# Altium schematic symbol library LimeMicroAltiumLib.SchLib: 659 symbols (part 6 of 22)
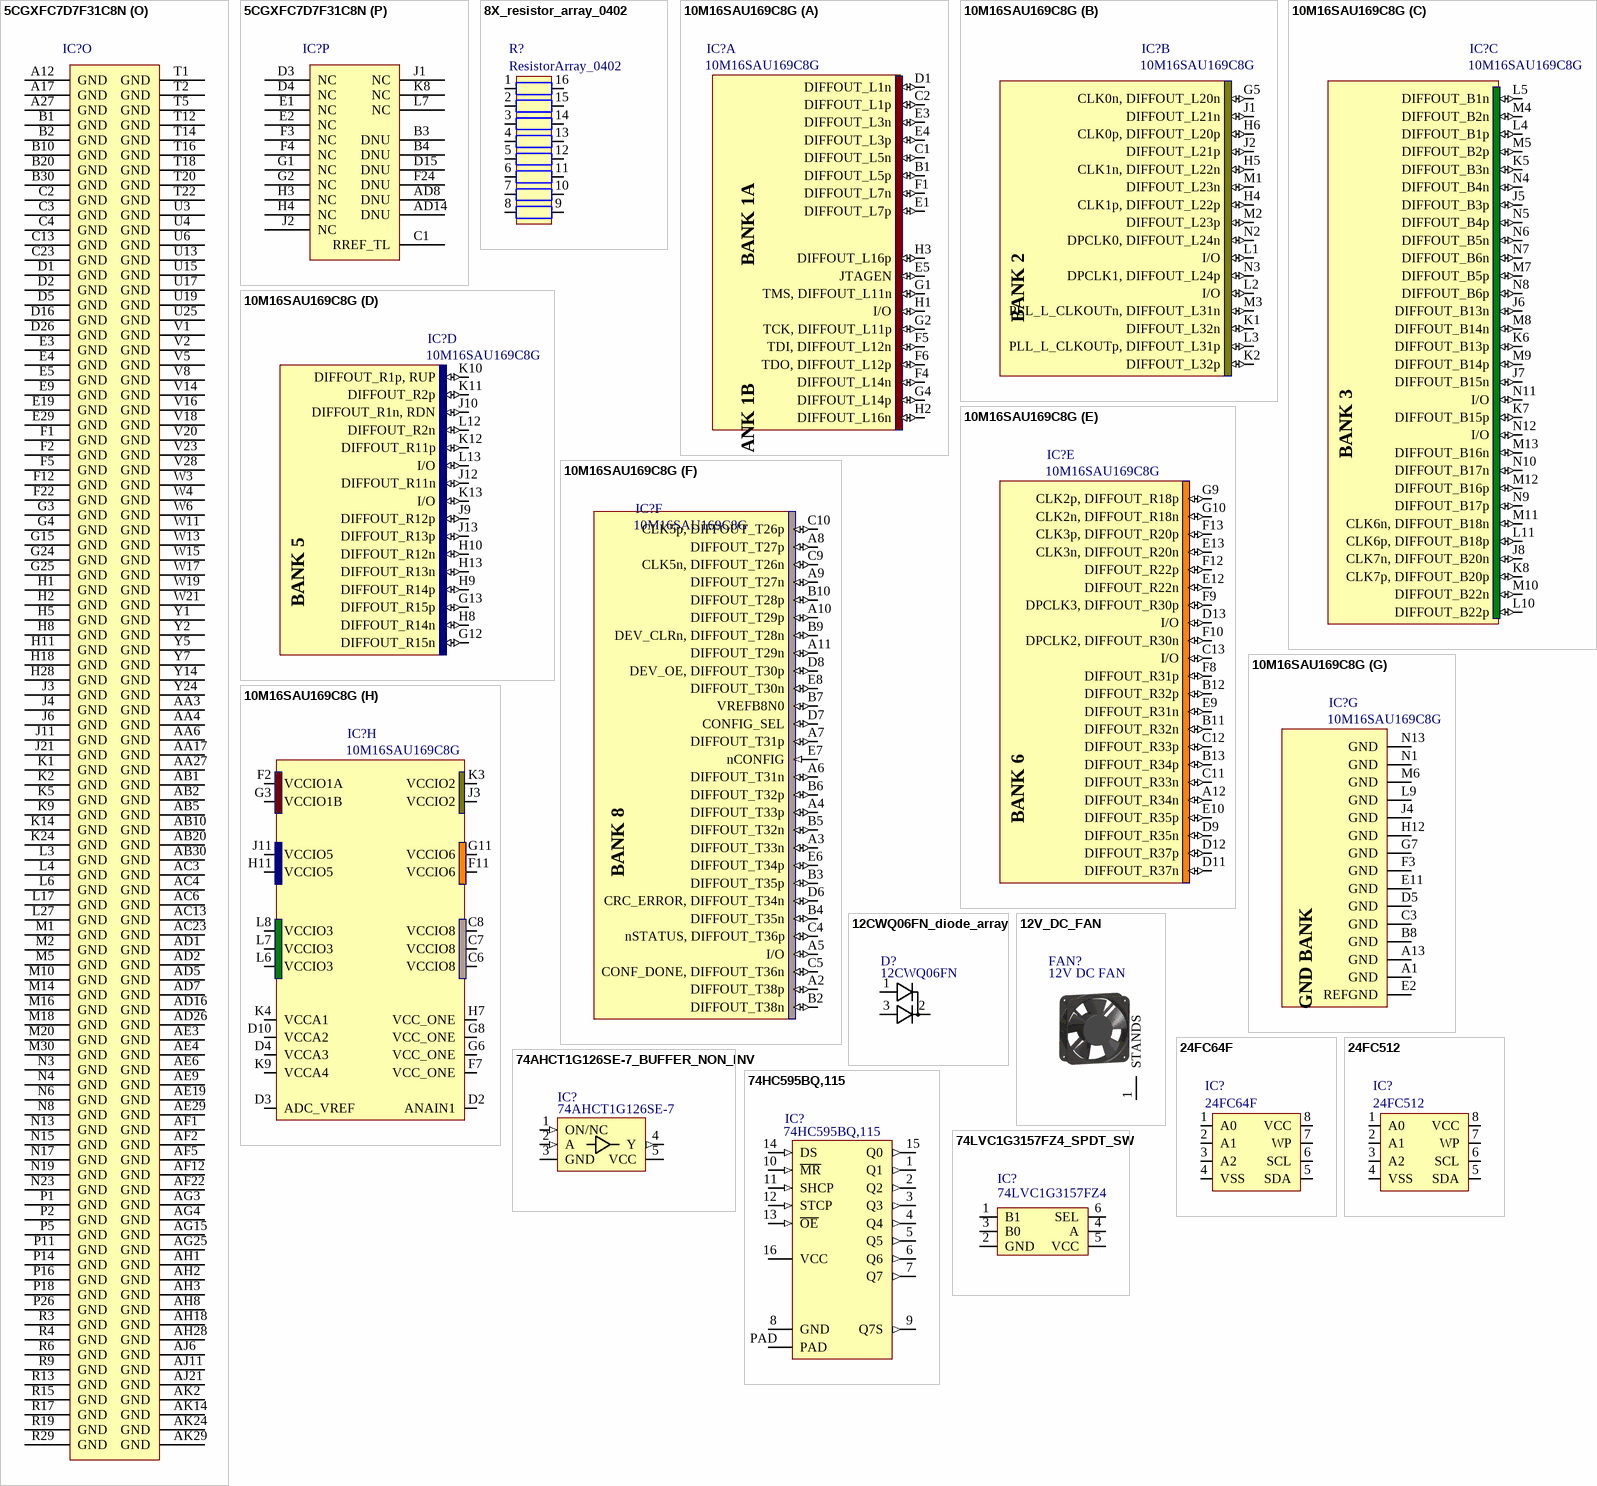
[diagram p83: symbols 5CGXFC7D7F31C8N to 74LVC1G3157FZ4_SPDT_SW]

## 74LVC1G3157FZ4_SPDT_SW
designator IC?, comment 74LVC1G3157FZ4
Part Description: 1 Circuit IC Switch 2:1 10Ohm X2-DFN1410-6; Manufacturer: Diodes; Manufacturer Part Number 1: 74LVC1G3157FZ4-7; Number of Circuits: 1; On-State Resistance: 10R; -3db Bandwidth: 300MHz; Supplier 1: Digi-Key; Supplier Part Number 1: 74LVC1G3157FZ4-7DICT-ND; Stock 1: 158709; Pricing 1: 1=0,42000, 10=0,31200, 25=0,27320, 100=0,17670, 250=0,14628, 500=0,11702, 1000=0,08972, 2500=0,07802 (USD); RoHS: Yes; Number of Pins: 6; Min Operating Temperature: -40°C; Max Operating Temperature: 125°C; Packaging: Tape and Reel; RoHS Compliant: Yes; ComponentLink1URL: https://www.diodes.com/assets/Datasheets/74LVC1G3157.pdf?src-supplier=Digi-Key; ComponentLink1Description: https://www.diodes.com/assets/Datasheets/74LVC1G3157.pdf?src-supplier=Digi-Key; ComponentLink2URL: https://www.diodes.com/assets/product-showcases/74LVC3157-NPA-0516.pdf?src-supplier=Digi-Key; ComponentLink2Description: https://www.diodes.com/assets/product-showcases/74LVC3157-NPA-0516.pdf?src-supplier=Digi-Key
footprint 74LVC1G3157FZ4_SPDT_SW_DFN1410-6 (Footprint not found)
pins: 1 B1, 2 GND, 3 B0, 4 A, 5 VCC, 6 SEL

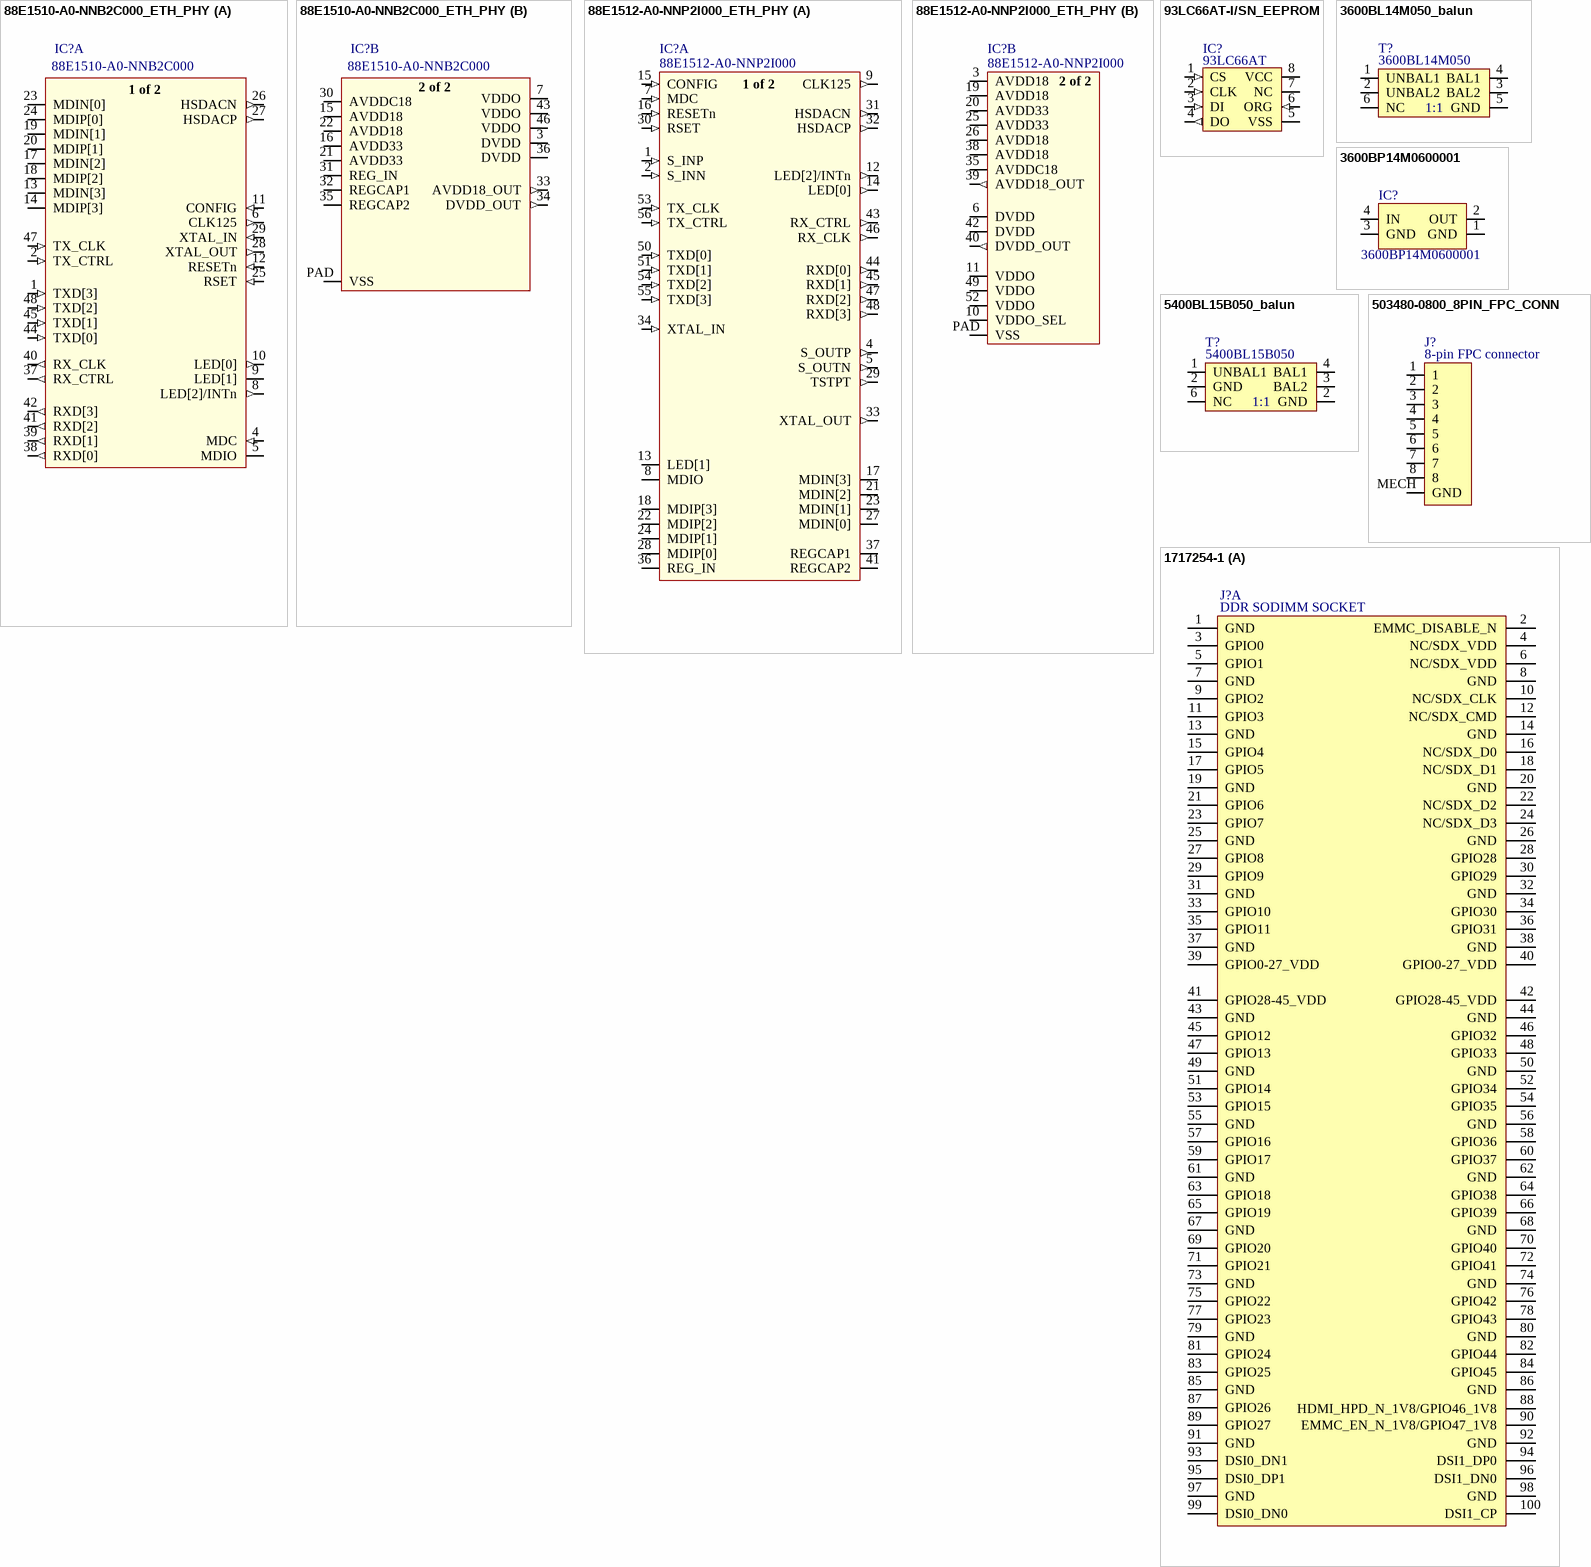
[diagram p20: symbols 88E1510-A0-NNB2C000_ETH_PHY to 1717254-1]

## 88E1510-A0-NNB2C000_ETH_PHY
designator IC?, comment 88E1510-A0-NNB2C000
Part Description: 4/4 Transceiver Full, Half IEEE 802.3, IEEE 1588 48-QFN (7x7); Manufacturer: Marvell; Supplier 1: Digi-Key; Supplier Part Number 1: 2208-88E1510-A0-NNB2C000-ND; Manufacturer Part Number 1: 88E1510-A0-NNB2C000; Stock 1: 1782; Pricing 1: 1=13,67000, 10=12,56100, 25=12,04040, 80=10,08800, 260=9,43719, 520=8,78635, 1040=8,59600 (USD); RoHS: Yes; RoHS Compliant: Yes
footprint 88E1510-A0-NNB2C000 _VQFN48 (Footprint not found)
part A pins: 1 TXD[3] (in), 2 TX_CTRL (in), 4 MDC (in), 5 MDIO (io), 6 CLK125 (out), 8 LED[2]/INTn (out), 9 LED[1] (io), 10 LED[0] (out), 11 CONFIG (in), 12 RESETn (in), 13 MDIN[3] (io), 14 MDIP[3] (io), 17 MDIN[2] (io), 18 MDIP[2] (io), 19 MDIN[1] (io), 20 MDIP[1] (io), 23 MDIN[0] (io), 24 MDIP[0] (io), 25 RSET (in), 26 HSDACN (out), 27 HSDACP (out), 28 XTAL_OUT (out), 29 XTAL_IN (in), 37 RX_CTRL (out), 38 RXD[0] (out), 39 RXD[1] (out), 40 RX_CLK (out), 41 RXD[2] (out), 42 RXD[3] (out), 44 TXD[0] (in), 45 TXD[1] (in), 47 TX_CLK (in), 48 TXD[2] (in)
part B pins: 3 DVDD (power), 7 VDDO (power), 15 AVDD18 (power), 16 AVDD33 (power), 21 AVDD33 (power), 22 AVDD18 (power), 30 AVDDC18 (power), 31 REG_IN, 32 REGCAP1 (io), 33 AVDD18_OUT (out), 34 DVDD_OUT (out), 35 REGCAP2 (io), 36 DVDD (power), 43 VDDO (power), 46 VDDO (power), PAD VSS
part A text: 1 of 2
part B text: 2 of 2

## 88E1512-A0-NNP2I000_ETH_PHY
designator IC?, comment 88E1512-A0-NNP2I000
Part Description: 4/4 Transceiver Full, Half IEEE 802.3, IEEE 1588 56-QFN (8x8); Manufacturer: Marvell; Number of Transceivers: 1; Supplier 1: Digi-Key; Supplier Part Number 1: 2208-88E1512-A0-NNP2I000-ND; Manufacturer Part Number 1: 88E1512-A0-NNP2I000; Stock 1: 6100; Pricing 1: 1=22,08000, 10=20,29400, 25=19,45320, 80=16,29850, 260=15,24704, 520=14,19552, 1040=13,45945 (USD); RoHS: Yes; Mount: Surface Mount; Min Operating Temperature: -40°C; Max Operating Temperature: 85°C; RoHS Compliant: Yes; ComponentLink1URL: http://www.marvell.com/transceivers/assets/Alaska_88E1512-001_product_brief.pdf?src-supplier=Avnet+Asia; ComponentLink1Description: http://www.marvell.com/transceivers/assets/Alaska_88E1512-001_product_brief.pdf?src-supplier=Avnet+Asia
footprint QFN56_MTG
part A pins: 1 S_INP (in), 2 S_INN (in), 4 S_OUTP (out), 5 S_OUTN (out), 7 MDC (in), 8 MDIO (io), 9 CLK125 (out), 12 LED[2]/INTn (out), 13 LED[1] (io), 14 LED[0] (out), 15 CONFIG (in), 16 RESETn (in), 17 MDIN[3] (io), 18 MDIP[3] (io), 21 MDIN[2] (io), 22 MDIP[2] (io), 23 MDIN[1] (io), 24 MDIP[1] (io), 27 MDIN[0] (io), 28 MDIP[0] (io), 29 TSTPT (out), 30 RSET (in), 31 HSDACN (out), 32 HSDACP (out), 33 XTAL_OUT (out), 34 XTAL_IN (in), 36 REG_IN, 37 REGCAP1 (io), 41 REGCAP2 (io), 43 RX_CTRL (out), 44 RXD[0] (out), 45 RXD[1] (out), 46 RX_CLK (out), 47 RXD[2] (out), 48 RXD[3] (out), 50 TXD[0] (in), 51 TXD[1] (in), 53 TX_CLK (in), 54 TXD[2] (in), 55 TXD[3] (in), 56 TX_CTRL (in)
part B pins: 3 AVDD18 (power), 6 DVDD (power), 10 VDDO_SEL (power), 11 VDDO (power), 19 AVDD18 (power), 20 AVDD33 (power), 25 AVDD33 (power), 26 AVDD18 (power), 35 AVDDC18 (power), 38 AVDD18 (power), 39 AVDD18_OUT (out), 40 DVDD_OUT (out), 42 DVDD (power), 49 VDDO (power), 52 VDDO (power), PAD VSS
part A text: 1 of 2
part B text: 2 of 2

## 93LC66AT-I/SN_EEPROM
designator IC?, comment 93LC66AT
Part Description: EEPROM Memory IC 4Kb (512 x 8) SPI 2MHz 8-SOIC; Manufacturer: Microchip Technology; Manufacturer Part Number 1: 93LC66AT-I/SN; Memory Type: Non-Volatile; Memory Format: EEPROM; Memory Size: 4Kb (512 x 8); Write Cycle Time - Word, Page: 6ms; Memory Interface: SPI; Voltage - Supply: 2.5 V ~ 5.5 V; Supplier 1: Digi-Key; RoHS: RoHS Compliant; Category: Integrated Circuits (ICs); Stock 1: 6857; Pricing 1: 1=0.27, 25=0.2576, 100=0.2543 (USD); Packaging: Digi-Reel®; Part Status: Active; Technology: EEPROM; Operating Temperature: -40°C ~ 85°C (TA); Mounting Type: Surface Mount; Package / Case: 8-SOIC (0.154", 3.90mm Width); Supplier Device Package: 8-SOIC; ComponentLink1URL: http://www.microchip.com/mymicrochip/filehandler.aspx?ddocname=en011819; ComponentLink1Description: http://www.microchip.com/mymicrochip/filehandler.aspx?ddocname=en011819; Supplier Part Number 1: 93LC66AT-I/SNDKR-ND
footprint SOIC127P600-8DL_v2 (8-Pin Small Outline Integrated Circuit 1.27 mm Pitch)
pins: 1 CS (in), 2 CLK (in), 3 DI (in), 4 DO (out), 5 VSS, 6 ORG (in), 7 NC, 8 VCC

## 3600BL14M050_balun
designator T?, comment 3600BL14M050
Part Description: Signal Conditioning 3.6GHz 1:1 BALUN
footprint 3600BL14M050_balun_0603
pins: 1 UNBAL1, 2 UNBAL2, 3 BAL2, 4 BAL1, 5 GND, 6 NC
text: 1:1

## 3600BP14M0600001
designator IC?
Manufacturer: Johanson; Manufacturer Part Number 1: 3600BP14M0600001T; Part Description: Filter Bandpass 3.6GHZ Eia 0603; ComponentLink1URL: https://www.johansontechnology.com/datasheets/3550LP14A300/3550LP14A300.pdf?src-supplier=Digi-Key; ComponentLink1Description: https://www.johansontechnology.com/datasheets/3550LP14A300/3550LP14A300.pdf?src-supplier=Digi-Key; Supplier 1: Digikey; Supplier Part Number 1: 712-3600BP14M0600001TCT-ND; Stock 1: 76868; Pricing 1: 1=0,52, 10=0,422, 25=0,3892, 50=0,366, 100=0,3442, 250=0,31736, 500=0,29852, 1000=0,2808 (USD); RoHS: No
footprint 3600BP14M0600
pins: 1 GND (power), 2 OUT (io), 3 GND (power), 4 IN (io)

## 5400BL15B050_balun
designator T?, comment 5400BL15B050
Part Description: RF Balun 4.9GHz ~ 5.9GHz 50 / 50Ohm 0805 (2012 Metric); Manufacturer: Johanson; Manufacturer Part Number 1: 5400BL15B0050001E; Supplier 1: Digikey; Supplier Part Number 1: 712-5400BL15B0050001ECT-ND; Stock 1: 0; Pricing 1: 1=0,64, 10=0,624, 25=0,4176, 50=0,3716, 100=0,3404, 250=0,30544, 500=0,29906, 1000=0,21634 (USD); RoHS: No
footprint 5400BL15B050_balun_0805
pins: 1 UNBAL1, 2 GND, 2 GND, 3 BAL2, 4 BAL1, 6 NC
text: 1:1

## 503480-0800_8PIN_FPC_CONN
designator J?, comment 8-pin FPC connector
Part Description: 8 Position FFC, FPC Connector Contacts, Top and Bottom 0.020" (0.50mm) Surface Mount, Right Angle; Manufacturer: Molex; Manufacturer Part Number 1: 503480-0800; Supplier 1: Digi-Key; Supplier Part Number 1: WM1388CT-ND; Stock 1: 119007; Pricing 1: 1=0,92000, 10=0,76100, 100=0,63420, 1000=0,50736 (USD); RoHS: Yes; ComponentLink1URL: https://datasheet.ciiva.com/671/5034800400-sd-671136.pdf?src-supplier=Digi-Key; ComponentLink1Description: https://datasheet.ciiva.com/671/5034800400-sd-671136.pdf?src-supplier=Digi-Key; ComponentLink2URL: https://datasheet.ciiva.com/5751/1631789-5751170.pdf?src-supplier=Farnell; ComponentLink2Description: https://datasheet.ciiva.com/5751/1631789-5751170.pdf?src-supplier=Farnell; ComponentLink3URL: https://datasheet.ciiva.com/10363/5034800800-ffc-fpc-connectors-10363985.pdf?src-supplier=Avnet; ComponentLink3Description: https://datasheet.ciiva.com/10363/5034800800-ffc-fpc-connectors-10363985.pdf?src-supplier=Avnet; ComponentLink4URL: https://datasheet.ciiva.com/5138/5034800800-ffc-fpc-connectors-179547-5138276.pdf?src-supplier=Mouser; ComponentLink4Description: https://datasheet.ciiva.com/5138/5034800800-ffc-fpc-connectors-179547-5138276.pdf?src-supplier=Mouser; ComponentLink5URL: https://datasheet.ciiva.com/26825/getdatasheetpartid-495673-26825585.pdf?src-supplier=Verical; ComponentLink5Description: https://datasheet.ciiva.com/26825/getdatasheetpartid-495673-26825585.pdf?src-supplier=Verical
footprint 503480-0800_8PIN_FPC_CONN (Footprint not found)
pins: 1, 2, 3, 4, 5, 6, 7, 8, MECH GND

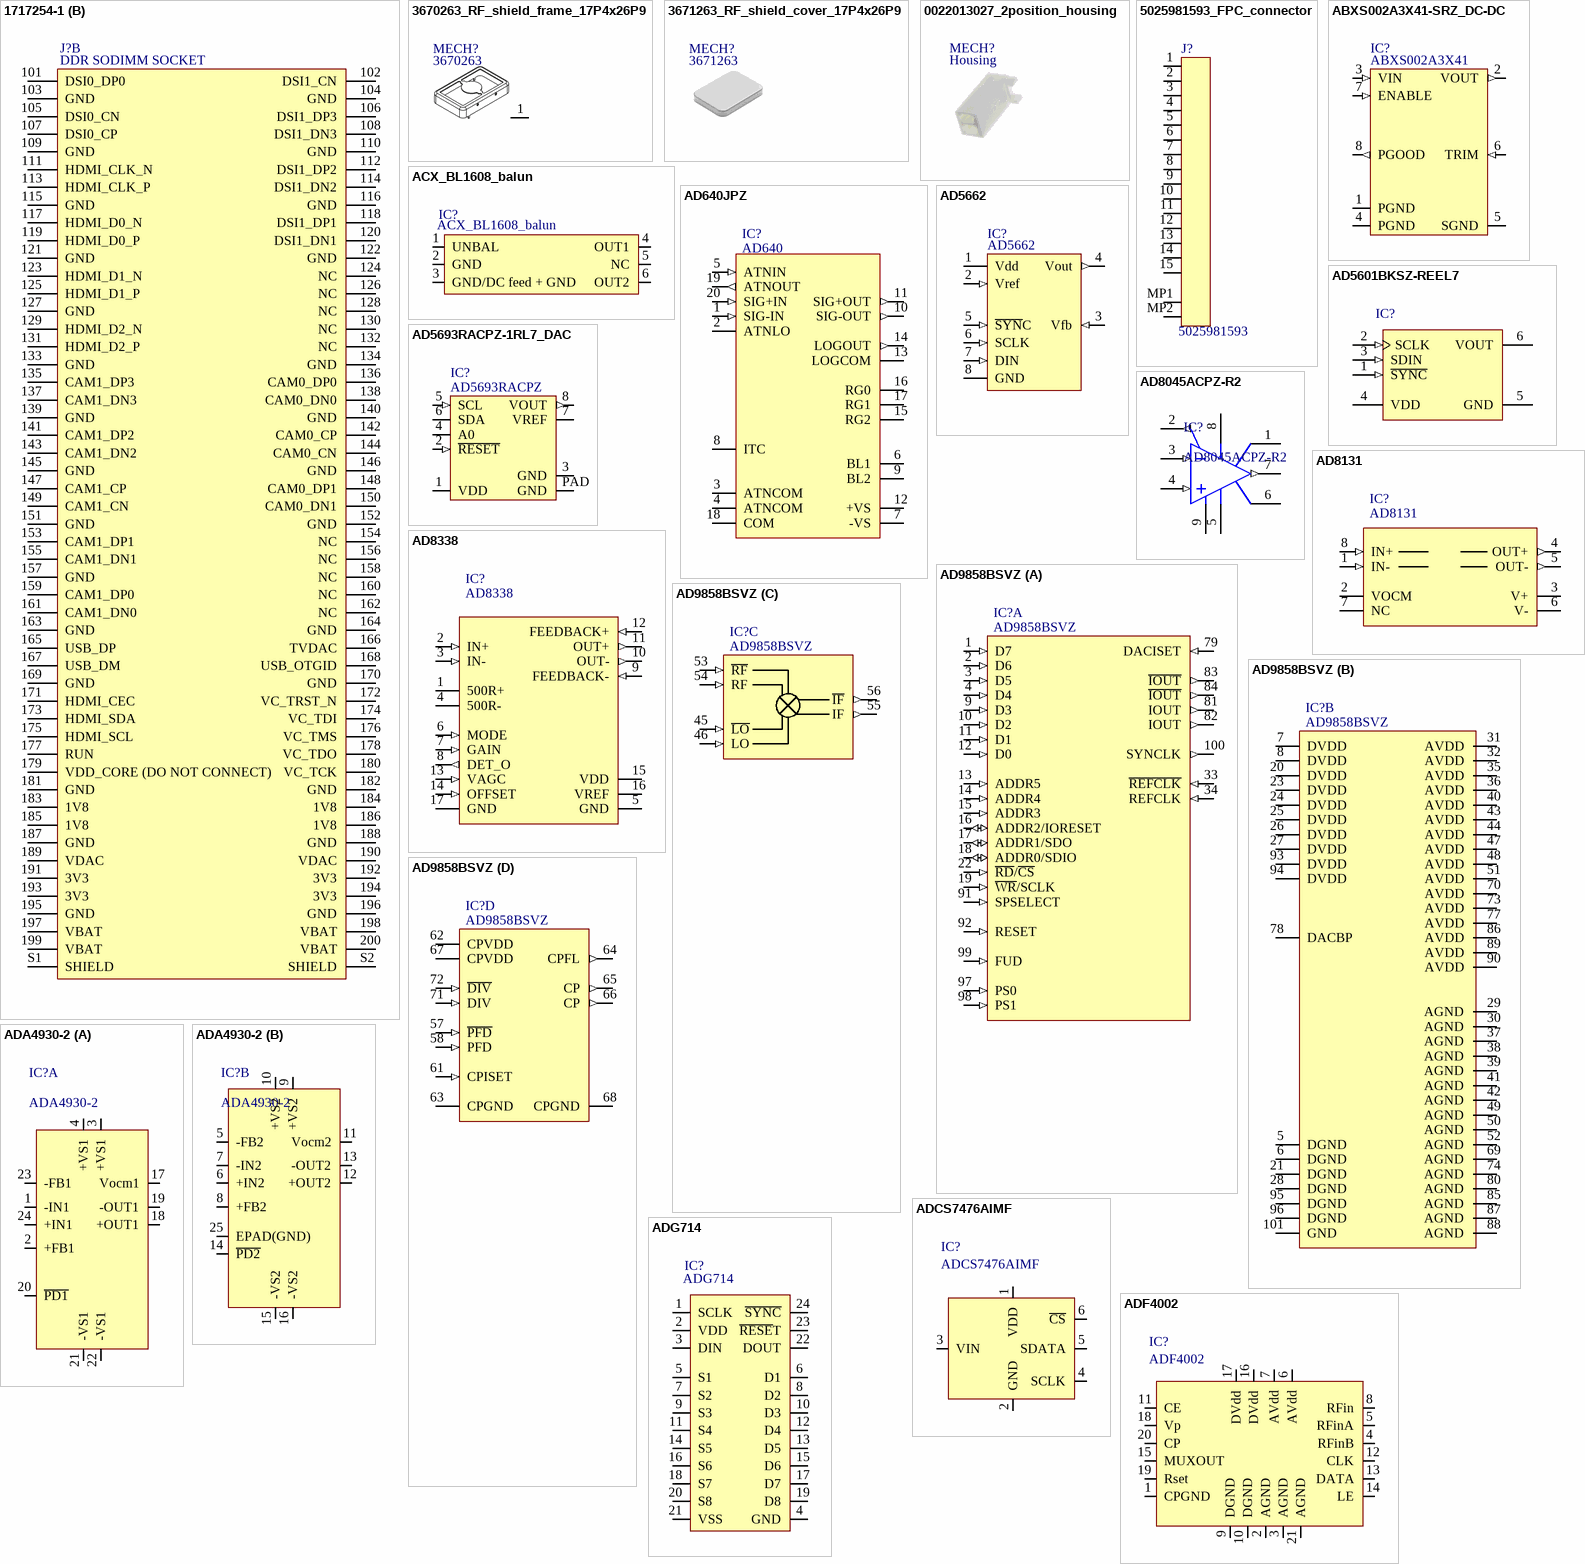
[diagram p21: symbols 1717254-1 to ADG714]

## 1717254-1
designator J?, comment DDR SODIMM SOCKET
Part Description: 200 Position SODIMM DDR SDRAM Socket Surface Mount, Right Angle; Manufacturer: TE Connectivity AMP Connectors; Manufacturer Part Number 1: 1717254-1; Memory Type: DDR SDRAM; Supplier 1: Digi-Key; RoHS: RoHS Compliant; Category: Connectors, Interconnects; Stock 1: 610; Pricing 1: 1=3.29, 10=3.155, 25=2.8924, 50=2.761 (USD); Packaging: Cut Tape (CT); Part Status: Active; Connector Style: SODIMM; Standards: -; Mounting Type: Surface Mount, Right Angle; Features: Board Guide, Latches; Mounting Feature: Normal, Standard - Top; Contact Finish: Gold; Contact Finish Thickness: Flash; ComponentLink1URL: http://www.te.com/commerce/DocumentDelivery/DDEController?Action=srchrtrv&DocNm=1717254&DocType=Customer+Drawing&DocLang=English; ComponentLink1Description: http://www.te.com/commerce/DocumentDelivery/DDEController?Action=srchrtrv&DocNm=1717254&DocType=Customer+Drawing&DocLang=English; Supplier Part Number 1: A111047CT-ND
footprint TE_1717254-1_DDR_SODIMM (Footprint not found)
part A pins: 1 GND, 2 EMMC_DISABLE_N, 3 GPIO0, 4 NC/SDX_VDD, 5 GPIO1, 6 NC/SDX_VDD, 7 GND, 8 GND, 9 GPIO2, 10 NC/SDX_CLK, 11 GPIO3, 12 NC/SDX_CMD, 13 GND, 14 GND, 15 GPIO4, 16 NC/SDX_D0, 17 GPIO5, 18 NC/SDX_D1, 19 GND, 20 GND, 21 GPIO6, 22 NC/SDX_D2, 23 GPIO7, 24 NC/SDX_D3, 25 GND, 26 GND, 27 GPIO8, 28 GPIO28, 29 GPIO9, 30 GPIO29, 31 GND, 32 GND, 33 GPIO10, 34 GPIO30, 35 GPIO11, 36 GPIO31, 37 GND, 38 GND, 39 GPIO0-27_VDD, 40 GPIO0-27_VDD, 41 GPIO28-45_VDD, 42 GPIO28-45_VDD, 43 GND, 44 GND, 45 GPIO12, 46 GPIO32, 47 GPIO13, 48 GPIO33, 49 GND, 50 GND, 51 GPIO14, 52 GPIO34, 53 GPIO15, 54 GPIO35, 55 GND, 56 GND, 57 GPIO16, 58 GPIO36, 59 GPIO17, 60 GPIO37, 61 GND, 62 GND, 63 GPIO18, 64 GPIO38, 65 GPIO19, 66 GPIO39, 67 GND, 68 GND, 69 GPIO20, 70 GPIO40, 71 GPIO21, 72 GPIO41, 73 GND, 74 GND, 75 GPIO22, 76 GPIO42, 77 GPIO23, 78 GPIO43, 79 GND, 80 GND, 81 GPIO24, 82 GPIO44, 83 GPIO25, 84 GPIO45, 85 GND, 86 GND, 87 GPIO26, 88 HDMI_HPD_N_1V8/GPIO46_1V8, 89 GPIO27, 90 EMMC_EN_N_1V8/GPIO47_1V8, 91 GND, 92 GND, 93 DSI0_DN1, 94 DSI1_DP0, 95 DSI0_DP1, 96 DSI1_DN0, 97 GND, 98 GND, 99 DSI0_DN0, 100 DSI1_CP
part B pins: 101 DSI0_DP0, 102 DSI1_CN, 103 GND, 104 GND, 105 DSI0_CN, 106 DSI1_DP3, 107 DSI0_CP, 108 DSI1_DN3, 109 GND, 110 GND, 111 HDMI_CLK_N, 112 DSI1_DP2, 113 HDMI_CLK_P, 114 DSI1_DN2, 115 GND, 116 GND, 117 HDMI_D0_N, 118 DSI1_DP1, 119 HDMI_D0_P, 120 DSI1_DN1, 121 GND, 122 GND, 123 HDMI_D1_N, 124 NC, 125 HDMI_D1_P, 126 NC, 127 GND, 128 NC, 129 HDMI_D2_N, 130 NC, 131 HDMI_D2_P, 132 NC, 133 GND, 134 GND, 135 CAM1_DP3, 136 CAM0_DP0, 137 CAM1_DN3, 138 CAM0_DN0, 139 GND, 140 GND, 141 CAM1_DP2, 142 CAM0_CP, 143 CAM1_DN2, 144 CAM0_CN, 145 GND, 146 GND, 147 CAM1_CP, 148 CAM0_DP1, 149 CAM1_CN, 150 CAM0_DN1, 151 GND, 152 GND, 153 CAM1_DP1, 154 NC, 155 CAM1_DN1, 156 NC, 157 GND, 158 NC, 159 CAM1_DP0, 160 NC, 161 CAM1_DN0, 162 NC, 163 GND, 164 GND, 165 USB_DP, 166 TVDAC, 167 USB_DM, 168 USB_OTGID, 169 GND, 170 GND, 171 HDMI_CEC, 172 VC_TRST_N, 173 HDMI_SDA, 174 VC_TDI, 175 HDMI_SCL, 176 VC_TMS, 177 RUN, 178 VC_TDO, 179 VDD_CORE (DO NOT CONNECT), 180 VC_TCK, 181 GND, 182 GND, 183 1V8, 184 1V8, 185 1V8, 186 1V8, 187 GND, 188 GND, 189 VDAC, 190 VDAC, 191 3V3, 192 3V3, 193 3V3, 194 3V3, 195 GND, 196 GND, 197 VBAT, 198 VBAT, 199 VBAT, 200 VBAT, S1 SHIELD, S2 SHIELD

## 3670263_RF_shield_frame_17P4x26P9
designator MECH?, comment 3670263
Part Description: RF Shield Frame 0.661" (16.80mm) X 1.035" (26.30mm) - Solder; Manufacturer: Würth Elektronik; Supplier 1: Digi-Key; Supplier Part Number 1: 732-3670263-ND; Manufacturer Part Number 1: 3670263; Stock 1: 64; Pricing 1: 1=3,64000, 5=3,36000, 10=3,08000, 20=2,80000, 40=2,52000, 64=2,24000 (USD)
footprint 3670263_RF_shield_frame_17P4x26P9
pins: 1 GND

## 3671263_RF_shield_cover_17P4x26P9
designator MECH?, comment 3671263
Part Description: RF Shield Cover 0.685" (17.40mm) X 1.059" (26.90mm) Non-Vented Surface Mount; Manufacturer: Würth Elektronik; Supplier 1: Digi-Key; Supplier Part Number 1: 732-3671263-ND; Manufacturer Part Number 1: 3671263; Stock 1: 64; Pricing 1: 1=3,64000, 5=3,36000, 10=3,08000, 20=2,80000, 40=2,52000, 64=2,24000 (USD)
footprint 3671263_RF_shield_cover_17P4x26P9

## 0022013027_2position_housing
designator MECH?, comment Housing  (mechanical)
Manufacture Part Number 1: 0022013027; Manufacturer: Molex; Supplier Part Number 1: 900-0022013027-ND; Supplier 1: Digi-Key

## 5025981593_FPC_connector
designator J?, comment 5025981593
Part Description: 15 Position FPC Connector Contacts, Top and Bottom 0.012" (0.30mm) Surface Mount, Right Angle; Manufacturer: Molex; Supplier 1: Digi-Key; Supplier Part Number 1: 900-5025981593CT-ND; Manufacturer Part Number 1: 5025981593; Stock 1: 19758; Pricing 1: 1=1,40000, 10=1,15900, 100=0,96600, 1000=0,77280 (USD); RoHS: Yes
footprint 5025981593_FPC_connector (Footprint not found)
pins: 1, 2, 3, 4, 5, 6, 7, 8, 9, 10, 11, 12, 13, 14, 15, MP1, MP2

## ABXS002A3X41-SRZ_DC-DC
designator IC?, comment ABXS002A3X41
Part Description: Non-Isolated PoL Module DC DC Converter 1 Output 16 ~ 34V    2.32A 8V - 16V Input; Manufacturer Part Number 1: ABXS002A3X41-SRZ; Manufacturer: ABB Power Electronics Inc.; Supplier Part Number 1: 555-1388-1-ND; Supplier 1: Digi-Key
footprint ABXS002A3X41-SRZ_DC-DC (Footprint not found)
pins: 1 PGND, 2 VOUT (out), 3 VIN (in), 4 PGND, 5 SGND, 6 TRIM (in), 7 ENABLE (in), 8 PGOOD (out)

## ACX_BL1608_balun
designator IC?
footprint ACX_BL1608_balun
pins: 1 UNBAL, 2 GND, 3 GND/DC feed + GND, 4 OUT1, 5 NC, 6 OUT2

## AD640JPZ
designator IC?, comment AD640
DC-Coupled Demodulating 120 MHz Logarithmic Amplifier; Manufacturer Part Number 1: AD640JPZ; Manufacturer: Analog Devices; Part Description: DC-Coupled Demodulating 120 MHz Logarithmic Amplifier; Supplier 1: Mouser; Supplier Part Number 1: 584-AD640JPZ
footprint AD640_PLCC20
pins: 1 SIG-IN (in), 2 ATNLO, 3 ATNCOM, 4 ATNCOM, 5 ATNIN (in), 6 BL1, 7 -VS (power), 8 ITC, 9 BL2, 10 SIG-OUT (out), 11 SIG+OUT (out), 12 +VS (power), 13 LOGCOM, 14 LOGOUT (out), 15 RG2, 16 RG0, 17 RG1, 18 COM, 19 ATNOUT (out), 20 SIG+IN (in)

## AD5601BKSZ-REEL7
designator IC?
Single 8-Bit nanoDAC with SPI Interface in LFCSP and SC70, 2.7 to 5.5 V, <100 uA, -40 to +125 degC, KS-6, Pb-Free, Reel; Generic Part Number: AD5601; Manufacturer: Analog Devices; PartNumber: AD5601BKSZ-REEL7; # DAC Outputs: 1; Max V+: 5.5V; Op Pwr Diss: 550µW; Resolution (Bits): 8; Settling Time: 6µs; Single Supply: Yes; DatasheetVersion: Rev.F; PackageVersion: 072809-A; PackageReference: KS-6; PackageDescription: 6-Lead Thin Shrink Small Outline Transistor Package [SC70]; Supplier 1: Digi-Key; Supplier Part Number 1: AD5601BKSZ-REEL7TR-ND; Supplier 2: Digi-Key; Supplier Part Number 2: AD5601BKSZ-REEL7CT-ND; Supplier 3: Digi-Key; Supplier Part Number 3: AD5601BKSZ-REEL7DKR-ND; Supplier 4: Farnell; Supplier Part Number 4: 2312971; Supplier 5: Newark; Supplier Part Number 5: 59K4256; Supplier 6: Newark; Supplier Part Number 6: 67W3160; Supplier 7: Mouser; Supplier Part Number 7: 584-AD5601BKSZ-R7; Packing: Reel; RoHS: Y; Mounting Technology: Surface Mount; Code_JEDEC: MO-203-AB; ComponentLink1Description: Manufacturer URL; ComponentLink1URL: http://www.analog.com/en/index.html; ComponentLink2Description: Datasheet; ComponentLink2URL: http://www.analog.com/static/imported-files/data_sheets/AD5601_5611_5621.pdf; ComponentLink3Description: Package Specification; ComponentLink3URL: http://www.analog.com/static/imported-files/packages/PKG_PDF/SC70(KS)/KS_6.pdf; ComponentLink4Description: Product URL; ComponentLink4URL: http://www.analog.com/en/digital-to-analog-converters/da-converters/ad5601/products/product.html
footprint SOT23-6 (Footprint not found)
pins: 1 ~{SYNC} (in) "Level-Triggered Control Input (Active Low). This is the frame synchronization signal for the input data. When S\Y\N\C\ goes low, it enables the input shift register, and data is transferred in on the falling edges of the (See Datasheet)", 2 SCLK (in) "Serial Clock Input. Data is clocked into the input shift register on the falling edge of the serial clock input. Data can be transferred at rates up to 30 MHz", 3 SDIN (in) "Serial Data Input. This device has a 16-bit shift register. Data is clocked into the register on the falling edge of the serial clock input.", 4 VDD (power) "Power Supply Input. The AD5601/AD5611/AD5621 can be operated from 2.7 V to 5.5 V. VDD should be decoupled to GND.", 5 GND (power) "Ground. Ground reference point for all circuitry on the AD5601.", 6 VOUT (hiz) "Analog Output Voltage from the DAC. The output amplifier has rail-to-rail operation."

## AD5662
designator IC?
Manufacturer: Analog Devices Inc.; Manufacturer Part Number 1: AD5662BRJZ-2REEL7; Part Description: IC DAC 16BIT BUFF V-OUT SOT23-8; Number of Bits: 16; Number of D/A Converters: 1; Settling Time: 10µs; Output Type: Voltage - Buffered; Differential Output: No; Data Interface: SPI, DSP; Reference Type: External; Voltage - Supply, Analog: 2.7 V ~ 5.5 V; INL/DNL (LSB): ±8, ±1 (Max); Architecture: String DAC; Supplier 1: Digi-Key; RoHS: RoHS Compliant; Category: Integrated Circuits (ICs); Stock 1: 2784; Pricing 1: 1=7.55, 10=6.821, 100=5.6469, 500=4.91722, 1000=4.28274 (USD); Packaging: Cut Tape (CT); Part Status: Active; Voltage - Supply, Digital: 2.7 V ~ 5.5 V; Operating Temperature: -40°C ~ 125°C; Package / Case: SOT-23-8; Supplier Device Package: SOT-23-8; ComponentLink1URL: http://www.analog.com/media/en/technical-documentation/data-sheets/AD5662.pdf; ComponentLink1Description: http://www.analog.com/media/en/technical-documentation/data-sheets/AD5662.pdf; Supplier Part Number 1: AD5662BRJZ-2REEL7CT-ND
footprint AD5662_SOT23-8
pins: 1 Vdd (power), 2 Vref (in), 3 Vfb (in), 4 Vout (out), 5 ~{SYN}C (in), 6 SCLK (in), 7 DIN (in), 8 GND

## AD5693RACPZ-1RL7_DAC
designator IC?, comment AD5693RACPZ
Part Description: Digital to Analog Converters - DAC 16-BIT 12C nanoDAC+ with on-chip ref; Manufacturer: Analog Devices; Manufacturer Part Number 1: AD5693RACPZ-1RL7; Number of DAC Channels: 1; Resolution: 16b; Settling Time: 5us; Integral Nonlinearity (INL): 8LSB; Polarity: Unipolar; Signal to Noise Ratio (SNR): 90dB; Max Supply Voltage: 5.5V; Min Output Voltage: 0uV; Slew Rate: 0.7V/µs; Output Type: Voltage; Supplier 1: Mouser; Supplier Part Number 1: 584-AD5693RACPZ-1RL7; Stock 1: 4949; Pricing 1: 1=8,56000, 10=7,73000, 50=7,36000, 100=6,40000, 1000=5,08000, 10000=5,08000 (USD); RoHS: Yes; Mount: Surface Mount; Number of Pins: 8; Min Operating Temperature: -40°C; Max Operating Temperature: 105°C; Max Input Voltage: 5.5V; Max Output Voltage: 5.5V; Lead Free: Contains Lead; RoHS Compliant: Yes; ComponentLink1URL: http://www.mouser.com/ds/2/609/AD5693R_5692R_5691R_5693-534178.pdf?src-supplier=Mouser; ComponentLink1Description: http://www.mouser.com/ds/2/609/AD5693R_5692R_5691R_5693-534178.pdf?src-supplier=Mouser; ComponentLink2URL: https://www.analog.com/media/en/technical-documentation/data-sheets/AD5693R_5692R_5691R_5693.pdf?src-supplier=Digi-Key; ComponentLink2Description: https://www.analog.com/media/en/technical-documentation/data-sheets/AD5693R_5692R_5691R_5693.pdf?src-supplier=Digi-Key; ComponentLink3URL: http://www.analog.com/static/imported-files/data_sheets/AD5693R_5692R_5691R.pdf?src-supplier=Avnet; ComponentLink3Description: http://www.analog.com/static/imported-files/data_sheets/AD5693R_5692R_5691R.pdf?src-supplier=Avnet; ComponentLink4URL: http://www.analog.com/media/en/technical-documentation/data-sheets/AD5693R_5692R_5691R_5693.pdf?src-supplier=Digi-Key; ComponentLink4Description: http://www.analog.com/media/en/technical-documentation/data-sheets/AD5693R_5692R_5691R_5693.pdf?src-supplier=Digi-Key
footprint AD5693RACPZ-1RL7_DAC_8LFCSP
pins: 1 VDD (power), 2 ~{RESET} (in), 3 GND, 4 A0 (io), 5 SCL (in), 6 SDA (io), 7 VREF (io), 8 VOUT (out), PAD GND

## AD8045ACPZ-R2
designator IC?
Single Channel Ultra Low Distortion  Operational Amplifier, 1 GHz BW, 1.35 KV/us SR, Industrial, 8-pin QFN (CP-8-2), Reel; Generic Part Number: AD8045; Manufacturer: Analog Devices; Amplifiers Per Package: 1; Input Bias Current: 2uA; Input Offset Voltage: 200uV; Iq/Amp: 19mA; Small Signal Bandwidth: 1GHz; V Span Max: 12V; V Span Min: 3.3V; DatasheetVersion: Rev. A; PackageVersion: 061507-B; PackageReference: CP-8-2; PackageDescription: 8-Pin Lead Frame Chip Scale Package, Body 3 x 3 mm, Pitch 0.5 mm; Supplier 1: Farnell; Supplier Part Number 1: 1078299; Supplier 2: Farnell; Supplier Part Number 2: 1078299RL; Supplier 3: Newark; Supplier Part Number 3: 59K6288; Slew Rate: 1.35KV/us; Mounting Technology: Surface Mount; PartNumber: AD8045ACPZ-R2; ComponentLink1Description: Manufacturer URL; ComponentLink1URL: http://www.analog.com/en/index.html; ComponentLink2Description: Datasheet; ComponentLink2URL: http://www.analog.com/static/imported-files/data_sheets/AD8045.pdf; ComponentLink3Description: Package Specification; ComponentLink3URL: http://www.analog.com/static/imported-files/packages/56953322593982CP_8_2.pdf
footprint AD8045ACPZ-R2 (QFN, 8-Leads, Body 3x3mm, Pitch 0.5mm, Thermal Pad 1.45X1.74mm, IPC High Density)
pins: 1 NC "No Connect", 2 FEEDBACK (out) "Feedback Pin", 3 -IN (in) "Inverting Input", 4 +IN (in) "Noninverting Input", 5 -VS (power) "Negative Supply", 6 NC "No Connect", 7 OUT (out) "Output", 8 +VS (power) "Positive Supply", 9 EP (power) "Must Be Connected to -VS or Electrically Isolated"

## AD8131
designator IC?
Differential Amplifiers IC Hi-Speed; Manufacturer: Analog Devices; Manufacturer Part Number 1: AD8131ARZ; Supplier Part Number 1: 584-AD8131ARZ; Supplier 1: Mouser; Part Description: Differential Amplifiers IC Hi-Speed
footprint AD8131_SOIC-8
pins: 1 IN- (in), 2 VOCM, 3 V+ (power), 4 OUT+ (out), 5 OUT- (out), 6 V- (power), 7 NC, 8 IN+ (in)

## AD8338
designator IC?
Special Purpose Amplifiers Ultra Low Pwr 18MHz SGL CH VGA; Manufacturer: Analog Devices; Manufacturer Part Number 1: AD8338ACPZ-R7; Part Description: Special Purpose Amplifiers Ultra Low Pwr 18MHz SGL CH VGA; Supplier 1: Mouser; Supplier Part Number 1: 584-AD8338ACPZ-R7
footprint AD8338_QFN3x3_16
pins: 1 500R+, 2 IN+ (in), 3 IN- (in), 4 500R-, 5 GND, 6 MODE (in), 7 GAIN (in), 8 DET_O (out), 9 FEEDBACK- (in), 10 OUT- (out), 11 OUT+ (out), 12 FEEDBACK+ (in), 13 VAGC (in), 14 OFFSET (in), 15 VDD (power), 16 VREF, 17 GND

## AD9858BSVZ
designator IC?
AD9858BSVZ, Direct Digital Synthesizer 10-Bit 1000000ksps, 100-Pin TQFP EP; Manufacturer: Analog Devices; Manufacturer Part Number 1: AD9858BSVZ; Supplier Part Number 1: 584-AD9858BSVZ; Part Description: AD9858BSVZ, Direct Digital Synthesizer 10-Bit 1000000ksps, 100-Pin TQFP EP; Supplier 1: Mouser
footprint AD9858_QFP16x16_100
part A pins: 1 D7 (in), 2 D6 (in), 3 D5 (in), 4 D4 (in), 9 D3 (in), 10 D2 (in), 11 D1 (in), 12 D0 (in), 13 ADDR5 (in), 14 ADDR4 (in), 15 ADDR3 (in), 16 ADDR2/IORESET (io), 17 ADDR1/SDO (io), 18 ADDR0/SDIO (io), 19 ~{WR}/SCLK (in), 22 ~{RD}/~{CS} (in), 33 ~{REFCLK} (in), 34 REFCLK (in), 59 NC hidden, 60 NC_1 hidden, 75 NC_2 hidden, 76 NC_3 hidden, 79 DACISET (in), 81 IOUT (out), 82 IOUT (out), 83 ~{IOUT} (out), 84 ~{IOUT} (out), 91 SPSELECT (in), 92 RESET (in), 97 PS0 (in), 98 PS1 (in), 99 FUD (in), 100 SYNCLK (out)
part B pins: 5 DGND, 6 DGND, 7 DVDD (power), 8 DVDD (power), 20 DVDD (power), 21 DGND, 23 DVDD (power), 24 DVDD (power), 25 DVDD (power), 26 DVDD (power), 27 DVDD (power), 28 DGND, 29 AGND, 30 AGND, 31 AVDD (power), 32 AVDD (power), 35 AVDD (power), 36 AVDD (power), 37 AGND, 38 AGND, 39 AGND, 40 AVDD (power), 41 AGND, 42 AGND, 43 AVDD (power), 44 AVDD (power), 47 AVDD (power), 48 AVDD (power), 49 AGND, 50 AGND, 51 AVDD (power), 52 AGND, 69 AGND, 70 AVDD (power), 73 AVDD (power), 74 AGND, 77 AVDD (power), 78 DACBP (power), 80 AGND, 85 AGND, 86 AVDD (power), 87 AGND, 88 AGND, 89 AVDD (power), 90 AVDD (power), 93 DVDD (power), 94 DVDD (power), 95 DGND, 96 DGND, 101 GND
part C pins: 45 ~{LO} (in), 46 LO (in), 53 ~{RF} (in), 54 RF (in), 55 IF (out), 56 ~{IF} (out)
part D pins: 57 ~{PFD} (in), 58 PFD (in), 61 CPISET (in), 62 CPVDD (power), 63 CPGND, 64 CPFL (out), 65 CP (out), 66 CP (out), 67 CPVDD (power), 68 CPGND, 71 DIV (in), 72 ~{DIV} (in)

## ADA4930-2
designator IC?
Manufacturer: Analog Devices Inc.; Manufacturer Part Number 1: ADA4930-2YCPZ-R7; Amplifier Type: Differential; Voltage - Supply, Single/Dual (±): 3.3V, 5V; Number of Circuits: 2; Current - Supply: 34mA; Slew Rate: 3400 V/µs; Voltage - Input Offset: 150µV; Current - Input Bias: 23µA; -3db Bandwidth: 1.35GHz; Current - Output / Channel: 30mA; Supplier 1: Digi-Key; Mounting Type: Surface Mount; Gain Bandwidth Product: -; Supplier Device Package: 24-LFCSP-VQ (4x4); Category: Integrated Circuits (ICs); Operating Temperature: -40°C ~ 105°C; Packaging: Cut Tape (CT); RoHS: RoHS Compliant; Package / Case: 24-VFQFN Exposed Pad, CSP; Output Type: Differential; Supplier Part Number 1: ADA4930-2YCPZ-R7CT-ND
footprint ADA4930-2_LFCSP-24 (QFN, 24-Leads, Body 4,00x4,00mm, Pitch 0,50mm, thermal pad, IPC Medium Density)
part A pins: 1 -IN1 (in), 2 +FB1 (out), 3 +VS1 (power), 4 +VS1 (power), 17 Vocm1 (in), 18 +OUT1 (out), 19 -OUT1 (out), 20 ~{PD1} (in), 21 -VS1 (power), 22 -VS1 (power), 23 -FB1 (out), 24 +IN1 (in)
part B pins: 5 -FB2 (out), 6 +IN2 (in), 7 -IN2 (in), 8 +FB2 (out), 9 +VS2 (power), 10 +VS2 (power), 11 Vocm2 (in), 12 +OUT2 (out), 13 -OUT2 (out), 14 ~{PD2} (in), 15 -VS2 (power), 16 -VS2 (power), 25 EPAD(GND)

## ADCS7476AIMF
designator IC?
Manufacturer Part Number: ADCS7476AIMF/NOPB; Manufacturer: Texas Instruments; Architecture: SAR; Voltage - Supply, Analog: 2.7 V ~ 5.25 V; Number of Inputs: 1; Number of Bits: 12; Supplier 1: Digi-Key; Category: Integrated Circuits (ICs); Package / Case: SOT-23-6; Voltage - Supply, Digital: 2.7 V ~ 5.25 V; Number of A/D Converters: 1; Supplier Part Number 1: ADCS7476AIMF/NOPBDKR-ND
footprint SOT23-6
pins: 1 VDD, 2 GND, 3 VIN, 4 SCLK, 5 SDATA, 6 ~{CS}

## ADF4002
designator IC?
Manufacturer: Analog Devices Inc; Manufacturer Part Number 1: ADF4002BCPZ-RL7; Ratio - Input:Output: 2:1; Differential - Input:Output: Yes/No; Input: CMOS, TTL; Voltage - Supply: 2.7 V ~ 3.3 V; Supplier 1: Digi-Key; Supplier: Digi-Key; Category: Integrated Circuits (ICs); Type: Clock/Frequency Synthesizer (RF), Phase Detector; Operating Temperature: -40°C ~ 85°C; Mounting Type: Surface Mount; Package / Case: 20-VFQFN Exposed Pad, CSP; Supplier Part Number 1: ADF4002BCPZ-RL7CT-ND
footprint ADF4002
pins: 1 CPGND, 2 AGND, 3 AGND, 4 RFinB, 5 RFinA, 6 AVdd, 7 AVdd, 8 RFin, 9 DGND, 10 DGND, 11 CE, 12 CLK, 13 DATA, 14 LE, 15 MUXOUT, 16 DVdd, 17 DVdd, 18 Vp, 19 Rset, 20 CP, 21 AGND

## ADG714
designator IC?
Manufacturer Part Number: ADG715BRUZ; Manufacturer: ANALOG DEVICES; No. of Pins: 24; Analog Switch Case: TSSOP; Analog Switch Type: SPST; Supply Voltage Range: 2.7V to 5.5; On State Resistance Max: 4.5; No. of Channels: 8; Supplier 1: Newark; Operating Temperature Min: -40; RoHS: YES; Supplier Part Number 1: 19M0686
footprint ADG714 (TSOP, 24-Leads, Body 7,80x4,40mm, Pitch 0,65mm, IPC Medium Density)
pins: 1 SCLK, 2 VDD, 3 DIN, 4 GND, 5 S1, 6 D1, 7 S2, 8 D2, 9 S3, 10 D3, 11 S4, 12 D4, 13 D5, 14 S5, 15 D6, 16 S6, 17 D7, 18 S7, 19 D8, 20 S8, 21 VSS, 22 DOUT, 23 ~{RESE}T, 24 ~{SYNC}

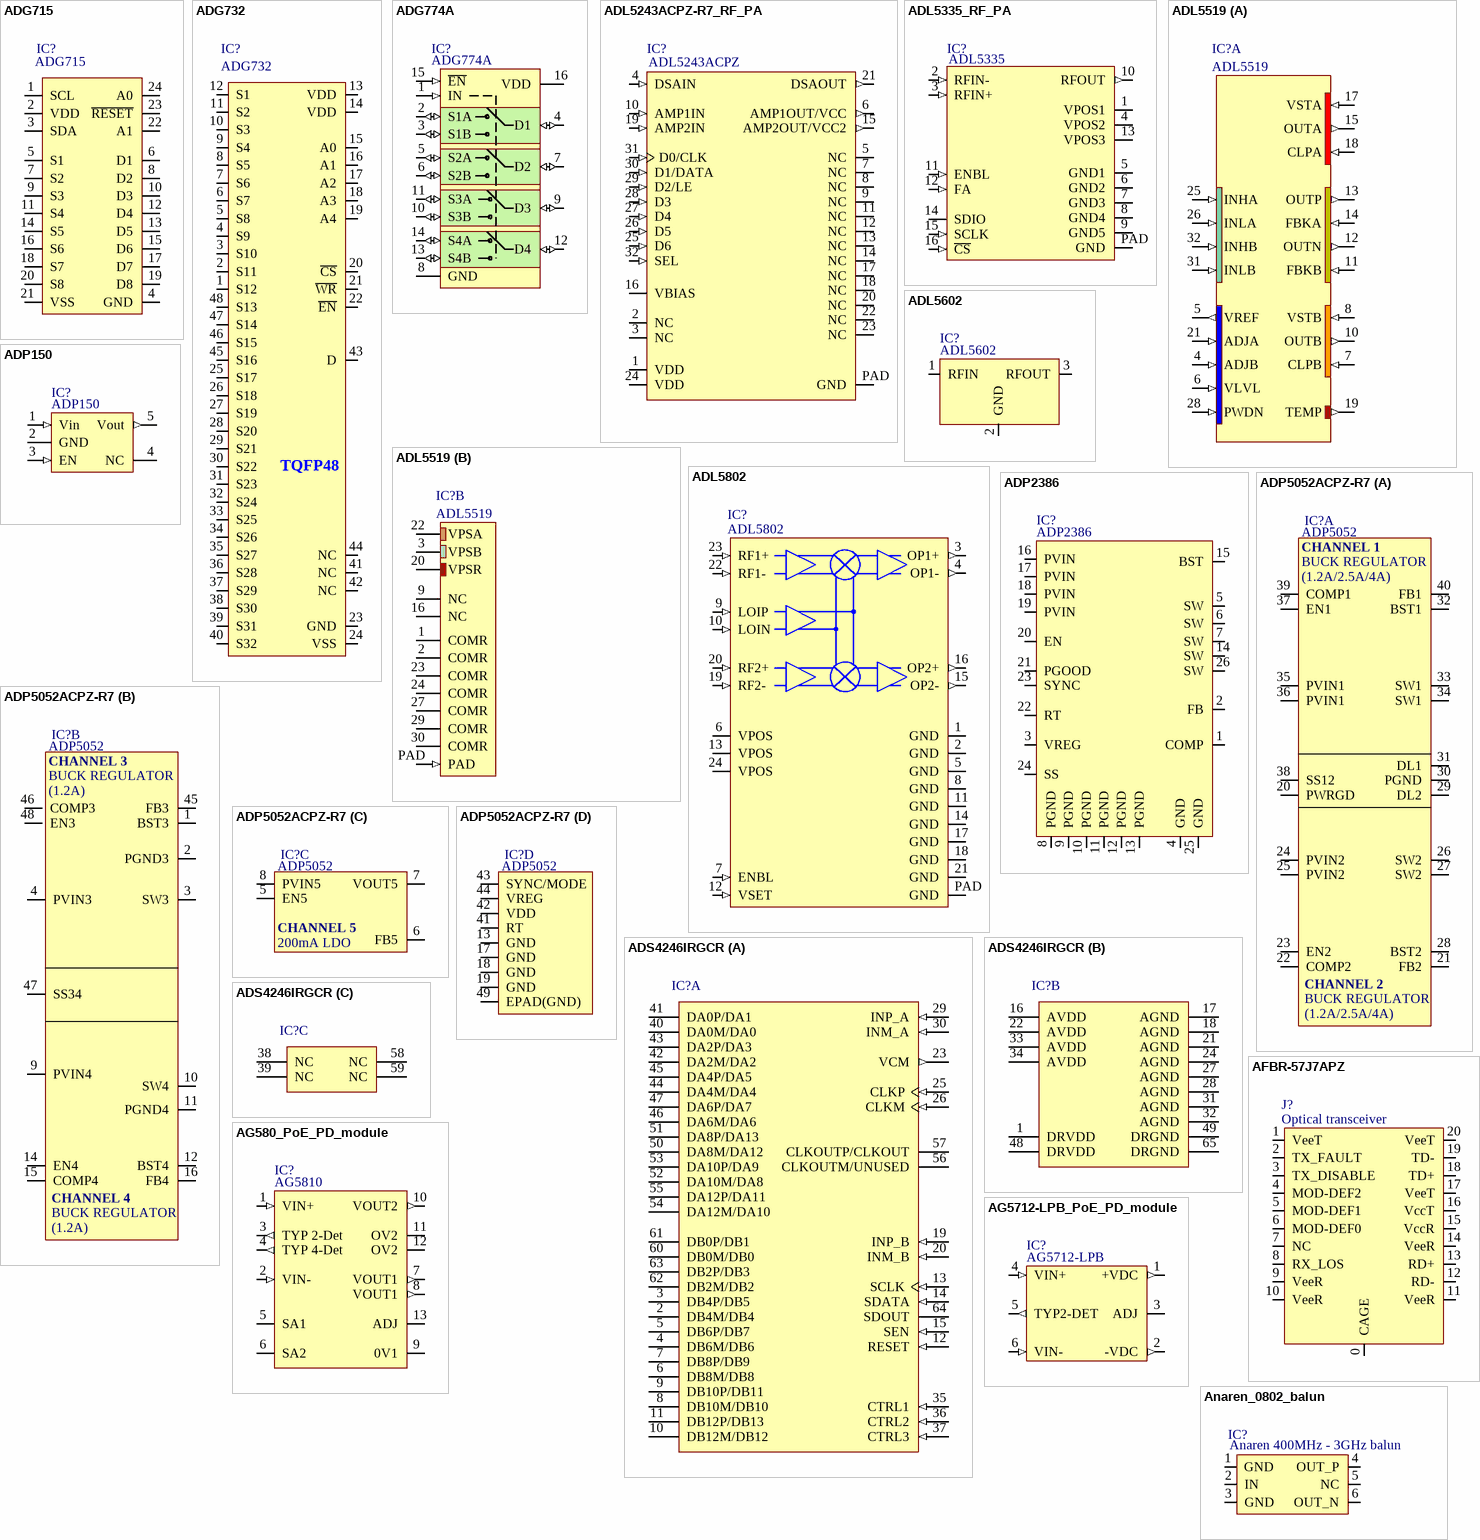
[diagram p22: symbols ADG715 to Anaren_0802_balun]

## ADG715
designator IC?
Manufacturer: Analog Devices Inc; Manufacturer Part Number 1: ADG715BRUZ; Current - Supply: 10µA; On-State Resistance: 4.5 Ohm; Voltage Supply Source: Single, Dual Supply; Function: Switch; Voltage - Supply, Single/Dual (±): 2.7 V ~ 5.5 V, ±2.5V; Circuit: 8 x SPST - NO; Supplier 1: Digi-Key; RoHS: RoHS Compliant; Operating Temperature: -40°C ~ 85°C; Package / Case: 24-TSSOP (0.173", 4.40mm Width); Category: Integrated Circuits (ICs); Supplier Device Package: 24-TSSOP; Packaging: Tube; Mounting Type: Surface Mount; Supplier Part Number 1: ADG715BRUZ-ND
footprint ADG714 (TSOP, 24-Leads, Body 7,80x4,40mm, Pitch 0,65mm, IPC Medium Density)
pins: 1 SCL, 2 VDD, 3 SDA, 4 GND, 5 S1, 6 D1, 7 S2, 8 D2, 9 S3, 10 D3, 11 S4, 12 D4, 13 D5, 14 S5, 15 D6, 16 S6, 17 D7, 18 S7, 19 D8, 20 S8, 21 VSS, 22 A1, 23 ~{RESET}, 24 A0

## ADG732
designator IC?
Manufacturer: Analog Devices Inc; Manufacturer Part Number 1: ADG732BSUZ; Current - Supply: 10µA; On-State Resistance: 5.5 Ohm; Voltage - Supply, Single/Dual (±): 1.8 V ~ 5.5 V, ±2.5 V; Voltage Supply Source: Single, Dual Supply; Circuit: 1 x 32:1; Function: Multiplexer; Supplier 1: Digi-Key; Package / Case: 48-TQFP; Mounting Type: Surface Mount; Category: Integrated Circuits (ICs); Supplier Device Package: 48-TQFP (7x7); Operating Temperature: -40°C ~ 85°C; RoHS: RoHS Compliant; Packaging: Tray; Supplier Part Number 1: ADG732BSUZ-ND
pins: 1 S12, 2 S11, 3 S10, 4 S9, 5 S8, 6 S7, 7 S6, 8 S5, 9 S4, 10 S3, 11 S2, 12 S1, 13 VDD, 14 VDD, 15 A0, 16 A1, 17 A2, 18 A3, 19 A4, 20 ~{CS}, 21 ~{WR}, 22 ~{EN}, 23 GND, 24 VSS, 25 S17, 26 S18, 27 S19, 28 S20, 29 S21, 30 S22, 31 S23, 32 S24, 33 S25, 34 S26, 35 S27, 36 S28, 37 S29, 38 S30, 39 S31, 40 S32, 41 NC, 42 NC, 43 D, 44 NC, 45 S16, 46 S15, 47 S14, 48 S13
text: TQFP48

## ADG774A
designator IC?
Manufacturer: Analog Devices Inc.; Manufacturer Part Number 1: ADG774ABRQZ-REEL7; Part Description: 4 Circuit IC Switch 2:1 3.5 Ohm 16-QSOP; Switch Time (Ton, Toff) (Max): 12ns, 6ns; Current - Leakage (IS(off)) (Max): 100pA; Channel-to-Channel Matching (&Delta;Ron): 150 mOhm; Number of Circuits: 4; Voltage - Supply, Single (V+): 3 V ~ 5 V; Switch Circuit: SPDT; Multiplexer/Demultiplexer Circuit: 2:1; Charge Injection: 6pC; Channel Capacitance (CS(off), CD(off)): 5pF, 7.5pF; -3db Bandwidth: 400MHz; On-State Resistance (Max): 3.5 Ohm; Crosstalk: -70dB @ 10MHz; Supplier 1: Digi-Key; Category: Integrated Circuits (ICs); Part Status: Active; Packaging: Digi-Reel®; RoHS: RoHS Compliant; Voltage - Supply, Dual (V±): -; Supplier Device Package: 16-QSOP; Package / Case: 16-SSOP (0.154", 3.90mm Width); Operating Temperature: -40°C ~ 85°C (TA); Supplier Part Number 1: ADG774ABRQZ-REEL7DKR-ND
footprint ADG7774A (16-Lead Shrink Small Outline Package [QSOP])
pins: 1 IN (in), 2 S1A (io), 3 S1B (io), 4 D1 (io), 5 S2A (io), 6 S2B (io), 7 D2 (io), 8 GND, 9 D3 (io), 10 S3B (io), 11 S3A (io), 12 D4 (io), 13 S4B (io), 14 S4A (io), 15 ~{EN} (in), 16 VDD (power)

## ADL5243ACPZ-R7_RF_PA
designator IC?, comment ADL5243ACPZ
Part Description: RF Amplifier IC General Purpose 100MHz ~ 4GHz 32-LFCSP-VQ (5x5); Manufacturer: Analog Devices; Manufacturer Part Number 1: ADL5243ACPZ-R7; Operating Supply Voltage: 5V; Frequency: 100MHz; Min Supply Voltage: 4.75V; Max Supply Voltage: 5.25V; Number of Channels: 1; Nominal Supply Current: 175mA; P1dB: 24.5dBm; Gain: 23dB; Noise Figure: 3.1dB; Test Frequency: 2.63GHz; Max Frequency: 4GHz; Max Power Dissipation: 1W; Operating Frequency: 4000 MHz; Supply Current: 93mA; Supplier 1: Digi-Key; Supplier Part Number 1: ADL5243ACPZ-R7CT-ND; Stock 1: 1023; Pricing 1: 1=12,16000, 10=11,00100, 25=10,13240, 100=9,26400, 250=8,68500, 500=8,10600 (USD); RoHS: Yes; Mount: Surface Mount; Case/Package: LFCSP EP; Number of Pins: 32; Contact Plating: Tin,Matte; Min Operating Temperature: -40°C; Max Operating Temperature: 85°C; Packaging: Tape and Reel; Package Quantity: 1; Operating Supply Current: 175mA; Series: -; Min Frequency: 100MHz; Radiation Hardening: No; REACH SVHC: No SVHC; Lead Free: Contains Lead; RoHS Compliant: Yes; ComponentLink1URL: https://datasheet.ciiva.com/8153/adl5243-8153697.pdf?src-supplier=Avnet; ComponentLink1Description: https://datasheet.ciiva.com/8153/adl5243-8153697.pdf?src-supplier=Avnet; ComponentLink2URL: https://datasheet.ciiva.com/1513/1465803-1513475.pdf?src-supplier=Element14; ComponentLink2Description: https://datasheet.ciiva.com/1513/1465803-1513475.pdf?src-supplier=Element14; ComponentLink3URL: https://datasheet.ciiva.com/15393/adl5243-244951-15393285.pdf?src-supplier=Mouser; ComponentLink3Description: https://datasheet.ciiva.com/15393/adl5243-244951-15393285.pdf?src-supplier=Mouser; ComponentLink4URL: https://datasheet.ciiva.com/2790/adl5243-2790339.pdf?src-supplier=Digi-Key; ComponentLink4Description: https://datasheet.ciiva.com/2790/adl5243-2790339.pdf?src-supplier=Digi-Key; ComponentLink5URL: https://datasheet.ciiva.com/2790/adl5243-2790340.pdf?src-supplier=Digi-Key; ComponentLink5Description: https://datasheet.ciiva.com/2790/adl5243-2790340.pdf?src-supplier=Digi-Key; ComponentLink6URL: https://datasheet.ciiva.com/2790/adl5243-2790341.pdf?src-supplier=Digi-Key; ComponentLink6Description: https://datasheet.ciiva.com/2790/adl5243-2790341.pdf?src-supplier=Digi-Key
footprint ADL5243ACPZ-R7_RF_PA_QFN32 (Footprint not found)
pins: 1 VDD (power) "Supply Voltage for DSA. Connect this pin to a 5 V supply", 2 NC "No Connect. Do not connect to this pin.", 3 NC "No Connect. Do not connect to this pin.", 4 DSAIN (in) "RF Input to DSA.", 5 NC "No Connect. Do not connect to this pin.", 6 AMP1OUT/VCC (out) "RF Output from Amplifier 1/Supply Voltage for Amplifier 1. Bias to Gain Block Amplifier 1 is provided through a choke to this pin when connected to VCC.", 7 NC "No Connect. Do not connect to this pin.", 8 NC "No Connect. Do not connect to this pin.", 9 NC "No Connect. Do not connect to this pin.", 10 AMP1IN (in) "RF Input to Gain Block Amplifier 1.", 11 NC "No Connect. Do not connect to this pin.", 12 NC "No Connect. Do not connect to this pin.", 13 NC "No Connect. Do not connect to this pin.", 14 NC "No Connect. Do not connect to this pin.", 15 AMP2OUT/VCC2 (out) "RF Output from Amplifier 2/Supply Voltage for Amplifier 2. Bias to Driver Amplifier 2 is provided through a choke to this pin when connected to VCC2.", 16 VBIAS "Bias for Driver Amplifier 2.", 17 NC "No Connect. Do not connect to this pin.", 18 NC "No Connect. Do not connect to this pin.", 19 AMP2IN (in) "RF Input to Amplifier 2.", 20 NC "No Connect. Do not connect to this pin.", 21 DSAOUT (out) "RF Output from DSA.", 22 NC "No Connect. Do not connect to this pin.", 23 NC "No Connect. Do not connect to this pin.", 24 VDD (power) "Supply Voltage for DSA. Connect this pin to a 5 V supply", 25 D6 (in) "Data Bit in Parallel Mode (LSB). Connect to supply in serial mode.", 26 D5 (in) "Data Bit in Parallel Mode. Connect to ground in serial mode.", 27 D4 (in) "Data Bit in Parallel Mode. Connect to ground in serial mode.", 28 D3 (in) "Data Bit in Parallel Mode. Connect to ground in serial mode.", 29 D2/LE (in) "Data Bit in Parallel Mode/Latch Enable in Serial Mode.", 30 D1/DATA (in) "Data Bit in Parallel Mode (MSB)/Data in Serial Mode.", 31 D0/CLK (in) "Connect this pin to ground in parallel mode. This pin functions as a clock in serial mode.", 32 SEL (in) "Select Pin. Connect this pin to the supply for parallel mode operation; connect this pin to ground for serial mode operation.", PAD GND (power) "Exposed Paddle. The exposed paddle must be connected to ground."

## ADL5335_RF_PA
designator IC?, comment ADL5335
Part Description: RF Amplifier IC General Purpose 700MHz ~ 4.2GHz 16-LFCSP (4x4); Manufacturer: Analog Devices; Manufacturer Part Number 1: ADL5335ACPZN; Frequency: 700MHz; P1dB: 18.3dBm; Gain: 13dB; Noise Figure: 8.3dB; Operating Supply Current: 125mA; Test Frequency: 925MHz; Assembly Info: *; Supplier 1: Digi-Key; Supplier Part Number 1: ADL5335ACPZN-ND; Stock 1: 100; Pricing 1: 1=20,64000, 10=18,67700, 25=17,20240, 80=15,72800, 230=14,74500 (USD); RoHS: Yes; Number of Pins: 16; RoHS Compliant: Yes; ComponentLink1URL: https://www.analog.com/media/en/technical-documentation/data-sheets/adl5335.pdf?src-supplier=Digi-Key; ComponentLink1Description: https://www.analog.com/media/en/technical-documentation/data-sheets/adl5335.pdf?src-supplier=Digi-Key
footprint ADL5335_RF_PA_QFN16
pins: 1 VPOS1 (power), 2 RFIN- (in), 3 RFIN+ (in), 4 VPOS2 (power), 5 GND1, 6 GND2, 7 GND3, 8 GND4, 9 GND5, 10 RFOUT (out), 11 ENBL (in), 12 FA (in), 13 VPOS3 (power), 14 SDIO (io), 15 SCLK (in), 16 ~{CS} (in), PAD GND

## ADL5519
designator IC?
Manufacturer: Analog Devices Inc.; Manufacturer Part Number 1: ADL5519ACPZ-R7; Part Description: RF IC Detector/Controller WiMax, WLAN 1MHz ~ 10GHz 32-LFCSP-VQ (5x5); Function: Detector/Controller; Frequency: 1MHz ~ 10GHz; RF Type: WiMax, WLAN; Supplier 1: Digi-Key; RoHS: RoHS Compliant; Category: RF/IF and RFID; Stock 1: 993; Pricing 1: 1=11.11, 10=10.214, 100=8.626, 500=7.6734 (USD); Packaging: Cut Tape (CT); Part Status: Active; Secondary Attributes: -; Package / Case: 32-VFQFN Exposed Pad, CSP; Supplier Device Package: 32-LFCSP-VQ (5x5); ComponentLink1URL: http://www.analog.com/media/en/technical-documentation/data-sheets/ADL5519.pdf; ComponentLink1Description: http://www.analog.com/media/en/technical-documentation/data-sheets/ADL5519.pdf; Supplier Part Number 1: ADL5519ACPZ-R7CT-ND
footprint ADL5519_32LFCSP (32-Lead Lead Frame Chip Scale Package [LFCSP_VQ]   5 mm × 5 mm Body, Very Thin Quad Lead)
part A pins: 4 ADJB (in), 5 VREF (out), 6 VLVL (in), 7 CLPB (in), 8 VSTB (in), 10 OUTB (out), 11 FBKB (in), 12 OUTN (out), 13 OUTP (out), 14 FBKA (in), 15 OUTA (out), 17 VSTA (in), 18 CLPA (in), 19 TEMP (out), 21 ADJA (in), 25 INHA (in), 26 INLA (in), 28 PWDN (in), 31 INLB (in), 32 INHB (in)
part B pins: 1 COMR, 2 COMR, 3 VPSB (power), 9 NC, 16 NC, 20 VPSR (power), 22 VPSA (power), 23 COMR, 24 COMR, 27 COMR, 29 COMR, 30 COMR, PAD (in)

## ADL5602
designator IC?
50 MHz to 4.0 GHz RF/IF Gain Block; Manufacturer: Analog Devices Inc.; Manufacturer Part Number: ADL5602ARKZ-R7; RF Type: Cellular, CATV; P1dB: 19.3dBm (85.1mW); Test Frequency: 2GHz; Voltage - Supply: 5V; Gain: 19.5dB; Noise Figure: 3.3dB; Current - Supply: 89mA; Frequency: 50MHz ~ 4GHz; Supplier 1: Digi-Key; Packaging: Digi-Reel®; Category: RF/IF and RFID; Package / Case: TO-243AA; RoHS: RoHS Compliant; Supplier Device Package: SOT-89-3; Supplier Part Number 1: ADL5602ARKZ-R7DKR-ND
footprint SOT-89-ADI-RK-3_M (SOT89, 3-Leads, Body 4.5x2.4 mm, Pitch 1.5mm, Lead Span 4.1mm, IPC Low Density)
pins: 1 RFIN (in) "RF Input. This pin requires a dc blocking capacitor.", 2 GND (power) "Ground. Connect this pin to a low impedance ground plane.", 3 RFOUT (out) "RF Output and Supply Voltage. A dc bias is provided to this pin through an inductor that is connected to the external power supply. The RF path requires a dc blocking capacitor."

## ADL5802
designator IC?
RF Mixer IC Cellular  100MHz ~ 6GHz 24-LFCSP-WQ (4x4); Manufacturer: Analog Devices; Manufacturer Part Number 1: ADL5802ACPZ-R7; Gain: 7.6dB; Noise Figure: 10dB; Operating Supply Current: 220mA; Power Gain: 1.6dB; P1dB: 12dBm; Operating Supply Voltage: 5V; Max Power Dissipation: 1.6W; Part Description: RF Mixer IC Cellular  100MHz ~ 6GHz 24-LFCSP-WQ (4x4); Supplier 1: Digi-Key; Supplier Part Number 1: ADL5802ACPZ-R7CT-ND; Stock 1: 461; Pricing 1: 1=15,86000, 10=14,57200, 25=13,96760, 100=12,30650, 250=11,70252, 500=10,94750 (USD); RoHS: Yes; Mount: Surface Mount; Case/Package: LFCSP EP; Number of Pins: 24; Contact Plating: Tin,Matte; Min Operating Temperature: -40°C; Max Operating Temperature: 85°C; Frequency: 100MHz; Packaging: Tape and Reel; Package Quantity: 1; Nominal Supply Current: 220mA; Lead Free: Contains Lead; ComponentLink1URL: https://datasheet.ciiva.com/3271/adl5802-3271073.pdf?src-supplier=Avnet; ComponentLink1Description: https://datasheet.ciiva.com/3271/adl5802-3271073.pdf?src-supplier=Avnet; ComponentLink2URL: https://datasheet.ciiva.com/16284/adl5802-243821-16284871.pdf?src-supplier=Mouser; ComponentLink2Description: https://datasheet.ciiva.com/16284/adl5802-243821-16284871.pdf?src-supplier=Mouser; ComponentLink3URL: https://datasheet.ciiva.com/2797/adl5802-2797415.pdf?src-supplier=Digi-Key; ComponentLink3Description: https://datasheet.ciiva.com/2797/adl5802-2797415.pdf?src-supplier=Digi-Key; ComponentLink4URL: https://datasheet.ciiva.com/2797/adl5802-2797416.pdf?src-supplier=Digi-Key; ComponentLink4Description: https://datasheet.ciiva.com/2797/adl5802-2797416.pdf?src-supplier=Digi-Key; ComponentLink5URL: https://datasheet.ciiva.com/2797/adl5802-2797417.pdf?src-supplier=Digi-Key; ComponentLink5Description: https://datasheet.ciiva.com/2797/adl5802-2797417.pdf?src-supplier=Digi-Key
footprint ADL5802_LFCSP24
pins: 1 GND, 2 GND, 3 OP1+ (out), 4 OP1- (out), 5 GND, 6 VPOS (power), 7 ENBL (in), 8 GND, 9 LOIP (in), 10 LOIN (in), 11 GND, 12 VSET (in), 13 VPOS (power), 14 GND, 15 OP2- (out), 16 OP2+ (out), 17 GND, 18 GND, 19 RF2- (in), 20 RF2+ (in), 21 GND, 22 RF1- (in), 23 RF1+ (in), 24 VPOS (power), PAD GND

## ADP150
designator IC?
Part Description: IC REG LDO 3.3V 0.15A TSOT23-5; Manufacturer: Analog Devices Inc.; Manufacturer Part Number 1: ADP150AUJZ-3.3-R7; Regulator Topology: Positive Fixed; Voltage - Output: 3.3V; Current - Output: 150mA; Voltage - Dropout (Typical): 0.105V @ 150mA; Voltage - Input: Up to 5.5V; Current - Limit (Min): 190mA; Supplier 1: Digi-Key; RoHS: RoHS Compliant; Category: Integrated Circuits (ICs); Stock 1: 10229; Pricing 1: 1=1.09, 10=0.972, 100=0.7581, 500=0.62624, 1000=0.4944 (USD); Packaging: Cut Tape (CT); Part Status: Active; Operating Temperature: -40°C ~ 125°C; Mounting Type: Surface Mount; Package / Case: SOT-23-5 Thin, TSOT-23-5; Supplier Device Package: TSOT-5; ComponentLink1URL: http://www.analog.com/media/en/technical-documentation/data-sheets/ADP150.pdf; ComponentLink1Description: http://www.analog.com/media/en/technical-documentation/data-sheets/ADP150.pdf; Supplier Part Number 1: ADP150AUJZ-3.3-R7CT-ND
footprint SOT23-5
pins: 1 Vin (in), 2 GND, 3 EN (in), 4 NC, 5 Vout (out)

## ADP2386
designator IC?
Manufacturer Part Number: ADP2386ACPZN-R7; Manufacturer: Analog Devices Inc.; Function: Step-Down; Voltage - Output (Max): 18V; Synchronous Rectifier: Yes; Output Configuration: Positive; Frequency - Switching: 200kHz ~ 1.4MHz; Number of Outputs: 1; Output Type: Adjustable; Topology: Buck; Voltage - Input (Min): 4.5V; Voltage - Output (Min/Fixed): 0.6V; Voltage - Input (Max): 20V; Current - Output: 6A; Supplier 1: Digi-Key; Packaging: Digi-Reel®; RoHS: RoHS Compliant; Package / Case: 24-WFQFN Exposed Pad, CSP; Operating Temperature: -40°C ~ 125°C (TJ); Supplier Device Package: 24-LFCSP-WQ (4x4); Mounting Type: Surface Mount; Category: Integrated Circuits (ICs); Supplier Part Number 1: ADP2386ACPZN-R7DKR-ND
footprint ADP2386 (QFN, 24-Leads, Body 4,00x4,00mm, Pitch 0,50mm, 2x thermal pads, IPC Medium Density)
pins: 1 COMP, 2 FB, 3 VREG, 4 GND, 5 SW, 6 SW, 7 SW, 8 PGND, 9 PGND, 10 PGND, 11 PGND, 12 PGND, 13 PGND, 14 SW, 15 BST, 16 PVIN, 17 PVIN, 18 PVIN, 19 PVIN, 20 EN, 21 PGOOD, 22 RT, 23 SYNC, 24 SS, 25 GND, 26 SW

## ADP5052ACPZ-R7
designator IC?, comment ADP5052
Part Description: Linear And Switching Voltage Regulator IC 5 Output Step-Down (Buck) Synchronous (4), Linear (LDO) (1) 740kHz 48-LFCSP-WQ (7x7); Manufacturer: Analog Devices; Manufacturer Part Number 1: ADP5052ACPZ-R7; Nominal Supply Current: 4.8mA; Output Voltage: 3.305V; Output Current: 200mA; Operating Supply Voltage: 15V; Max Output Current: 4kA; Number of Outputs: 5; Min Input Voltage: 4.5V; Max Duty Cycle: 50%; Switching Frequency: 740kHz; Voltage - Output 1: 1.6V; Voltage - Output 2: 5V; Voltage - Output 3: 1.8V; Current - Output 3: 1.2A; Max Output Voltage: 13.5V; Min Output Voltage: 800mV; Output Type: Fixed; Supplier 1: Digi-Key; Stock 1: 1249; Pricing 1: 1 = 8,89000, 10 = 8,03000, 100 = 6,64770 (USD); RoHS: Yes; Mount: Surface Mount; Case/Package: LFCSP EP; Number of Pins: 48; Contact Plating: Tin; Min Operating Temperature: -40°C; Max Operating Temperature: 125°C; Package Quantity: 750; Packaging: Tape and Reel; Max Input Voltage: 15V; Length: 7mm; Height: 0.73mm; Width: 7.1mm; REACH SVHC: No SVHC; Lead Free: Contains Lead; ComponentLink1URL: https://datasheet.ciiva.com/24009/adp5052-254022-24009200.pdf?src-supplier=Mouser; ComponentLink1Description: https://datasheet.ciiva.com/24009/adp5052-254022-24009200.pdf?src-supplier=Mouser; ComponentLink2URL: https://datasheet.ciiva.com/30477/0900766b8122e86d-30477651.pdf?src-supplier=RSComponents; ComponentLink2Description: https://datasheet.ciiva.com/30477/0900766b8122e86d-30477651.pdf?src-supplier=RSComponents; ComponentLink3URL: https://datasheet.ciiva.com/29892/adp5052-29892875.pdf?src-supplier=Avnet; ComponentLink3Description: https://datasheet.ciiva.com/29892/adp5052-29892875.pdf?src-supplier=Avnet; ComponentLink4URL: https://datasheet.ciiva.com/18550/adp5052-18550493.pdf?src-supplier=Digi-Key; ComponentLink4Description: https://datasheet.ciiva.com/18550/adp5052-18550493.pdf?src-supplier=Digi-Key; ComponentLink5URL: https://datasheet.ciiva.com/18550/adp5052-18550491.pdf?src-supplier=Digi-Key; ComponentLink5Description: https://datasheet.ciiva.com/18550/adp5052-18550491.pdf?src-supplier=Digi-Key; ComponentLink6URL: https://datasheet.ciiva.com/18550/adp5052-18550492.pdf?src-supplier=Digi-Key; ComponentLink6Description: https://datasheet.ciiva.com/18550/adp5052-18550492.pdf?src-supplier=Digi-Key; ComponentLink7URL: https://datasheet.ciiva.com/48694/001251707-da-01-en-ic-reg-5out-adp5052acpz-r7-lfcsp-48-adi-48694988.pdf?src-supplier=Conrad; ComponentLink7Description: https://datasheet.ciiva.com/48694/001251707-da-01-en-ic-reg-5out-adp5052acpz-r7-lfcsp-48-adi-48694988.pdf?src-supplier=Conrad; Supplier Part Number 1: ADP5052ACPZ-R7CT-ND
footprint ADP5052_LFCSP48 (LFCSP-48 package)
part A pins: 20 PWRGD, 21 FB2, 22 COMP2, 23 EN2, 24 PVIN2, 25 PVIN2, 26 SW2, 27 SW2, 28 BST2, 29 DL2, 30 PGND, 31 DL1, 32 BST1, 33 SW1, 34 SW1, 35 PVIN1, 36 PVIN1, 37 EN1, 38 SS12, 39 COMP1, 40 FB1
part B pins: 1 BST3, 2 PGND3, 3 SW3, 4 PVIN3, 9 PVIN4, 10 SW4, 11 PGND4, 12 BST4, 14 EN4, 15 COMP4, 16 FB4, 45 FB3, 46 COMP3, 47 SS34, 48 EN3
part C pins: 5 EN5, 6 FB5, 7 VOUT5, 8 PVIN5
part D pins: 13 GND, 17 GND, 18 GND, 19 GND, 41 RT, 42 VDD, 43 SYNC/MODE, 44 VREG, 49 EPAD(GND)
part A text: CHANNEL 1; BUCK REGULATOR; (1.2A/2.5A/4A); CHANNEL 2
part B text: CHANNEL 3; BUCK REGULATOR; (1.2A); CHANNEL 4
part C text: CHANNEL 5; 200mA LDO